# EAGLE library part TAA5242IRGER (library TAA5242IRGER)
Stereo Audio 16 b, 20 b, 24 b, 32 b DSP, I2C, I2S, Serial, TDM 24-VQFN (4x4) , -40C ~ 125C (TA) Source: Datasheet <https://www.ti.com/lit/ds/symlink/taa5242.pdf?HQS=ti-null-null-sf-df-pf-sep-wwe&ts=1741314911989&ref_url=https%3A%2F%2Fcomponentsearchengine.com%2F>
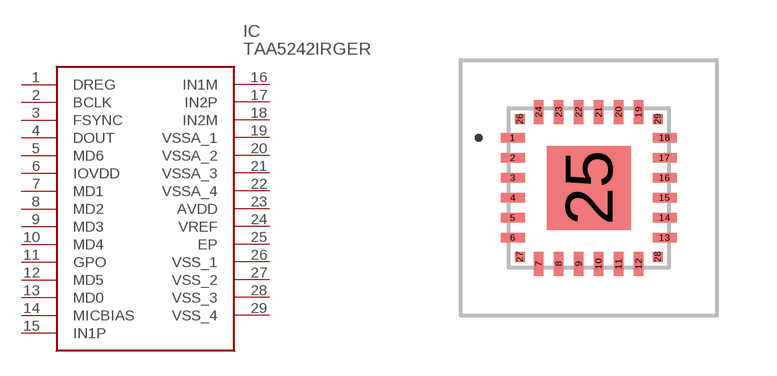
[diagram p0: symbol with the pads of TAA5242IRGER; footprint TAA5242IRGER]

Designator prefix IC

## TAA5242IRGER (Arrow_Part_Number: TAA5242IRGER; Arrow_Price-Stock: https://www.arrow.com/en/products/taa5242irger/texas-instruments?utm_currency=USD&region=nac; Description: Stereo Audio 16 b, 20 b, 24 b, 32 b DSP, I2C, I2S, Serial, TDM 24-VQFN (4x4) , -40C ~ 125C (TA); Height: 1mm; Manufacturer_Name: Texas Instruments; Manufacturer_Part_Number: TAA5242IRGER)  [TAA5242IRGER]
1  DREG
2  BCLK
3  FSYNC
4  DOUT
5  MD6
6  IOVDD
7  MD1
8  MD2
9  MD3
10  MD4
11  GPO
12  MD5
13  MD0
14  MICBIAS
15  IN1P
16  IN1M
17  IN2P
18  IN2M
19  VSSA_1
20  VSSA_2
21  VSSA_3
22  VSSA_4
23  AVDD
24  VREF
25  EP
26  VSS_1
27  VSS_2
28  VSS_3
29  VSS_4

## Footprint TAA5242IRGER (pad centres in mm)
TAA5242IRGER-8
smd 0.6 x 0.24: 1 -1.9,1.25; 2 -1.9,0.75; 3 -1.9,0.25; 4 -1.9,-0.25; 5 -1.9,-0.75; 6 -1.9,-1.25; 13 1.9,-1.25; 14 1.9,-0.75; 15 1.9,-0.25; 16 1.9,0.25; 17 1.9,0.75; 18 1.9,1.25
smd 0.24 x 0.6: 7 -1.25,-1.9; 8 -0.75,-1.9; 9 -0.25,-1.9; 10 0.25,-1.9; 11 0.75,-1.9; 12 1.25,-1.9; 19 1.25,1.9; 20 0.75,1.9; 21 0.25,1.9; 22 -0.25,1.9; 23 -0.75,1.9; 24 -1.25,1.9
smd 2.1 x 2.1: 25 0,0
smd 0.25 x 0.25: 26 -1.725,1.725; 27 -1.725,-1.725; 28 1.725,-1.725; 29 1.725,1.725